# Altium footprint library KEYSTONE_942.PcbLib: 1 footprints
Each footprint in its own frame and in the unit in brackets; x right, y up, seen from the top. Pads: shape width x height; smd on the part's side, far side on the other; paste and mask are expansions set on the pad; w line width, h text height; cw(c..) or ccw(c..) is an arc to the next point about the centre after c.
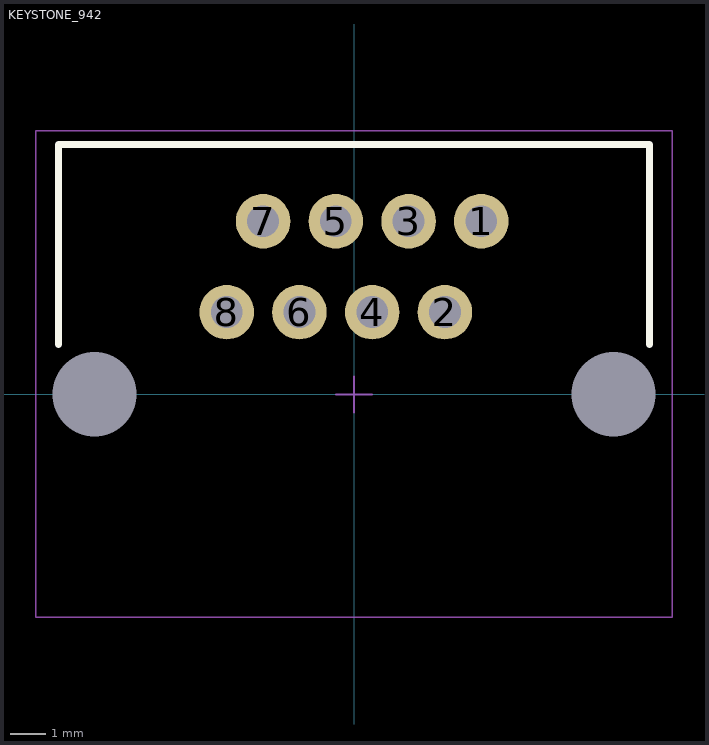
[diagram p0: the footprint, top view; thin cyan lines are the x and y axes]

## KEYSTONE_942 [mil]
pads (10):
  round 60 hole 35: 1(140,190.55) 2(100,90.55) 3(60,190.55) 4(20,90.55) 5(-20,190.55) 6(-60,90.55) 7(-100,190.55) 8(-140,90.55)
  round 0 hole 92.91: 9(-285.43,0) 9(285.43,0)
Top Overlay:
  lines w7.87: -325,55 -325,275 325,275 325,55
Mechanical 15:
  lines w1.97: -20,0 20,0 ; 0,-20 0,20 ; -350,-245 350,-245 350,290 -350,290 -350,-245
3D body "keystone-PN942.STEP": height 570.87, standoff -129.92, extent -334.36,-240 334.36,271.81